# EAGLE library part MICRO_SD (library hugo)
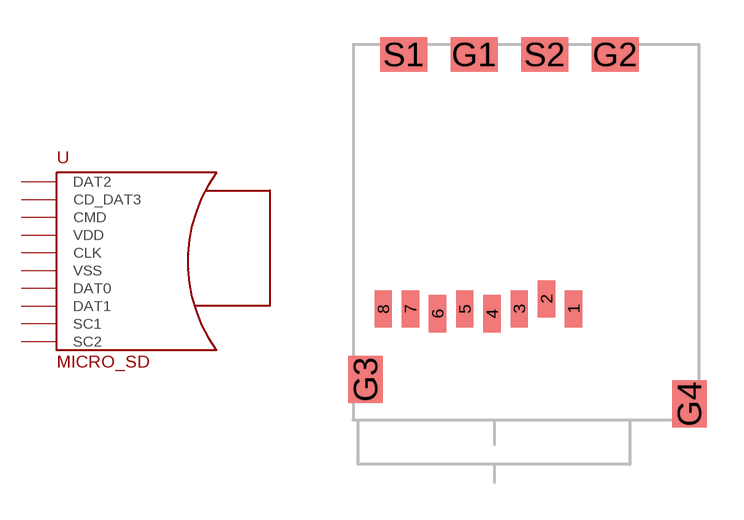
[diagram p9: symbol with the pads of MOCRO_SD; footprint MOCRO_SD]

Designator prefix -

## MICRO_SD  [MOCRO_SD]
1  DAT2
2  CD_DAT3
3  CMD
4  VDD
5  CLK
6  VSS
7  DAT0
8  DAT1
G1  VSS
G2  VSS
G3  VSS
G4  VSS
S1  SC1
S2  SC2

## Footprint MOCRO_SD (pad centres in mm)
smd 0.7 x 1.5: 1 8.92,-10.7; 2 7.82,-10.3; 3 6.72,-10.7; 4 5.62,-10.9; 5 4.52,-10.7; 6 3.42,-10.9; 7 2.32,-10.7; 8 1.22,-10.7
smd 1.9 x 1.4: G1 4.9,-0.4; G2 10.6,-0.4; S1 2.05,-0.4; S2 7.75,-0.4
smd 1.4 x 1.9: G3 0.5,-13.55; G4 13.6,-14.55